# Altium integrated library SN74LS283N.IntLib: 1 symbol
Pins are listed as number, name and electrical type; pins without a type are passive.

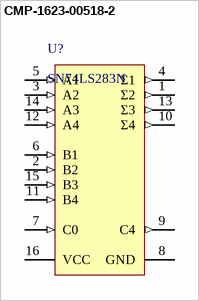
[diagram p0: symbol CMP-1623-00518-2]

## CMP-1623-00518-2
designator U?, comment SN74LS283N
4-Bit Binary Full Adders With Fast Carry, N0016A, TUBE; Manufacturer: Texas Instruments; VCC(Min)(V): 4.75; Output Type: CMOS; Inputs: 9; Bits(#): 4; F @ Nom Voltage(Max)(Mhz): 35; Voltage(Nom)(V): 5; Rating: Catalog; tpd @ Nom Voltage(Max)(ns): 24; Schmitt Trigger: No; Technology Family: LS; Output Drive (IOL/IOH)(Max)(mA): 8/-0.4; Input Type: TTL; VCC(Max)(V): 5.25; Function: Arithmetic; ICC @ Nom Voltage(Max)(mA): 34; DatasheetVersion: SDLS095A; PackageReference: N0016A; Generic Part Number: SN74LS283; Type: Binary; Code_JEDEC: MS-001; Operating Temperature Range(C): 0 to 70
footprint N0016A (DIP, 16-Leads, Body 19.7x6.6mm, Pitch 2.54mm)
pins: 1 Σ2 (out), 2 B2 (in), 3 A2 (in), 4 Σ1 (out), 5 A1 (in), 6 B1 (in), 7 C0 (in), 8 GND (power), 9 C4 (out), 10 Σ4 (out), 11 B4 (in), 12 A4 (in), 13 Σ3 (out), 14 A3 (in), 15 B3 (in), 16 VCC (power)